# Altium footprint library MWSA0603S-XRXMT.PcbLib: 3 footprints
Each footprint in its own frame and in the unit in brackets; x right, y up, seen from the top. Pads: shape width x height; smd on the part's side, far side on the other; paste and mask are expansions set on the pad; w line width, h text height; cw(c..) or ccw(c..) is an arc to the next point about the centre after c.
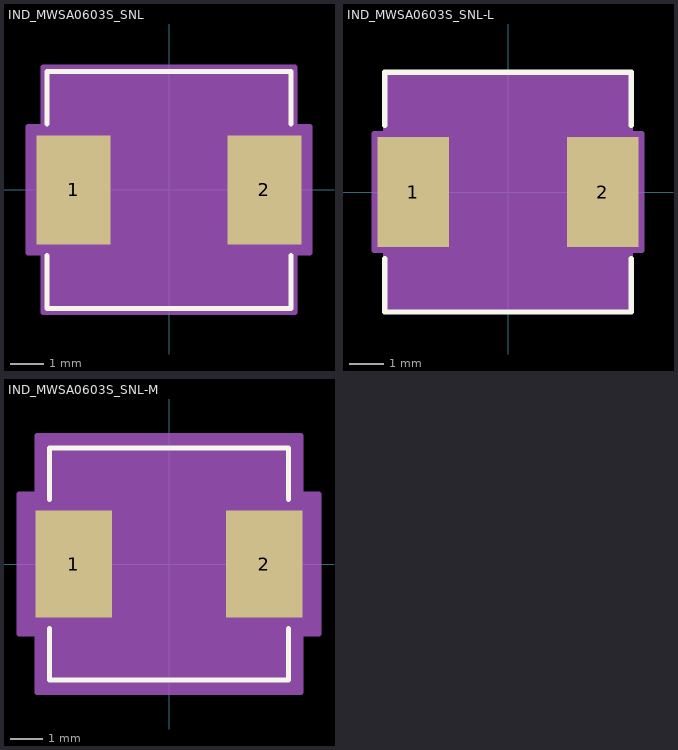
[diagram p0: the footprints below, top view; thin cyan lines are the x and y axes]

## IND_MWSA0603S_SNL [mil]
pads (2):
  rect 87x128 smd paste+0 mask+0: 1(-112,0) 2(112,0)
Top Overlay:
  lines w6: -143,-77.1 -143,-139 143,-139 143,-77.1 ; -143,77.1 -143,139 143,139 143,77.1
Mechanical 13:
  circle w0: c-68.5,0 r3
  lines w0: -12,134 ccw(c0,134) 12,134
  lines w1: -138,-134 138,-134 138,134 -138,134 -138,-134
Mechanical 15:
  region: -148,-74 -165.5,-74 -165.5,74 -148,74 -148,144 148,144 148,74 165.5,74 165.5,-74 148,-74 148,-144 -148,-144
  lines w6: -165.5,-74 -165.5,74 -148,74 -148,144 148,144 148,74 165.5,74 165.5,-74 148,-74 148,-144 -148,-144 -148,-74 -165.5,-74
3D body "IND_MWSA0603S_SNL.step": height 118.11, standoff 0, extent -143.5,-134.02 143.5,134.02

## IND_MWSA0603S_SNL-L [mil]
pads (2):
  rect 83x128 smd paste+0 mask+0: 1(-110,0) 2(110,0)
Top Overlay:
  lines w6: -143,-77.1 -143,-139 143,-139 143,-77.1 ; -143,77.1 -143,139 143,139 143,77.1
Mechanical 13:
  circle w0: c-68.5,0 r3
  lines w0: -12,134 ccw(c0,134) 12,134
  lines w1: -138,-134 138,-134 138,134 -138,134 -138,-134
Mechanical 15:
  region: -142,-68 -155.5,-68 -155.5,68 -142,68 -142,138 142,138 142,68 155.5,68 155.5,-68 142,-68 142,-138 -142,-138
  lines w6: -155.5,-68 -155.5,68 -142,68 -142,138 142,138 142,68 155.5,68 155.5,-68 142,-68 142,-138 -142,-138 -142,-68 -155.5,-68
3D body "IND_MWSA0603S_SNL.step": height 118.11, standoff 0, extent -143.5,-134.02 143.5,134.02

## IND_MWSA0603S_SNL-M [mil]
pads (2):
  rect 91x128 smd paste+0 mask+0: 1(-114,0) 2(114,0)
Top Overlay:
  lines w6: -143,-77.1 -143,-139 143,-139 143,-77.1 ; -143,77.1 -143,139 143,139 143,77.1
Mechanical 13:
  circle w0: c-68.5,0 r3
  lines w0: -12,134 ccw(c0,134) 12,134
  lines w1: -138,-134 138,-134 138,134 -138,134 -138,-134
Mechanical 15:
  region: -158,-84 -179.5,-84 -179.5,84 -158,84 -158,154 158,154 158,84 179.5,84 179.5,-84 158,-84 158,-154 -158,-154
  lines w6: -179.5,-84 -179.5,84 -158,84 -158,154 158,154 158,84 179.5,84 179.5,-84 158,-84 158,-154 -158,-154 -158,-84 -179.5,-84
3D body "IND_MWSA0603S_SNL.step": height 118.11, standoff 0, extent -143.5,-134.02 143.5,134.02